# Altium footprint library RAC05-12SK.PcbLib: 1 footprints
Each footprint in its own frame and in the unit in brackets; x right, y up, seen from the top. Pads: shape width x height; smd on the part's side, far side on the other; paste and mask are expansions set on the pad; w line width, h text height; cw(c..) or ccw(c..) is an arc to the next point about the centre after c.
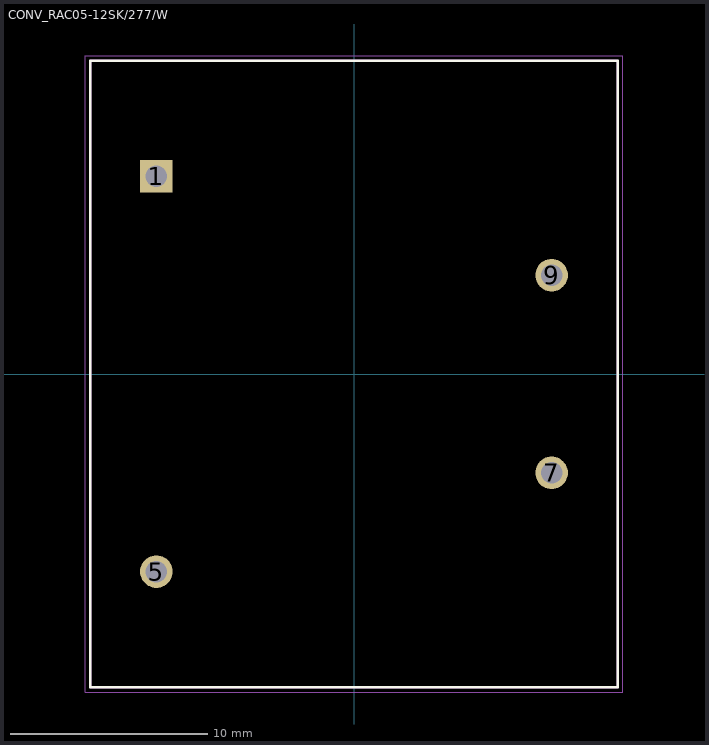
[diagram p0: the footprint, top view; thin cyan lines are the x and y axes]

## CONV_RAC05-12SK/277/W [mm]
pads (4):
  rect 1.65x1.65 hole 1.1: 1(-10,10)
  round 1.65 hole 1.1: 5(-10,-10) 7(10,-5) 9(10,5)
Top Overlay:
  lines w0.127: -13.35,-15.85 -13.35,15.85 13.35,15.85 13.35,-15.85 -13.35,-15.85
Mechanical 13:
  lines w0.127: -13.35,-15.85 -13.35,15.85 13.35,15.85 13.35,-15.85 -13.35,-15.85
Mechanical 15:
  lines w0.05: -13.6,-16.1 -13.6,16.1 13.6,16.1 13.6,-16.1 -13.6,-16.1